# Altium footprint library CMChoke.PcbLib: 2 footprints
Each footprint in its own frame and in the unit in brackets; x right, y up, seen from the top. Pads: shape width x height; smd on the part's side, far side on the other; paste and mask are expansions set on the pad; w line width, h text height; cw(c..) or ccw(c..) is an arc to the next point about the centre after c.
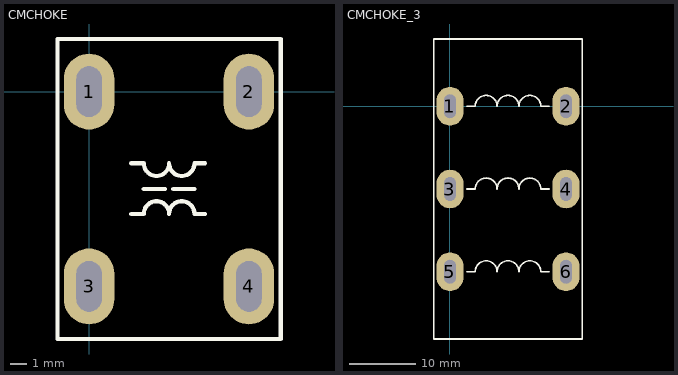
[diagram p0: the footprints below, top view; thin cyan lines are the x and y axes]

## CMCHOKE [mil]
pads (4):
  oval 120x180 hole 60 slot 120 at 90 deg: 1(0,0) 2(379.5,0) 3(0,-462) 4(379.5,-462)
Top Overlay:
  lines w10: 100,-290 130,-290 cw(c160,-290) 190,-290 cw(c220,-290) 250,-290 275,-290 ; 100,-170 130,-170 ccw(c160,-170) 190,-170 ccw(c220,-170) 250,-170 275,-170 ; 130,-231 180,-231 ; 200,-231 250,-231 ; -75,-587 455,-587 455,125 -75,125 -75,-587

## CMCHOKE_3 [mil]
pads (6):
  oval 160x230 hole 70 slot 140 at 90 deg: 1(0,0) 2(690,0) 3(0,-492) 4(690,-492) 5(0,-984) 6(690,-984)
Top Overlay:
  lines w10: 100,-984 150,-984 cw(c215,-984) 280,-984 cw(c345,-984) 410,-984 cw(c475,-984) 540,-984 590,-984 ; 100,-492 150,-492 cw(c215,-492) 280,-492 cw(c345,-492) 410,-492 cw(c475,-492) 540,-492 590,-492 ; 100,0 150,0 cw(c215,0) 280,0 cw(c345,0) 410,0 cw(c475,0) 540,0 590,0 ; -97,-1384 787,-1384 787,400 -97,400 -97,-1384